# Altium footprint library BASIC Library.PCBLIB: 464 footprints (part 29 of 30)
Each footprint in its own frame and in the unit in brackets; x right, y up, seen from the top. Pads: shape width x height; smd on the part's side, far side on the other; paste and mask are expansions set on the pad; w line width, h text height; cw(c..) or ccw(c..) is an arc to the next point about the centre after c.
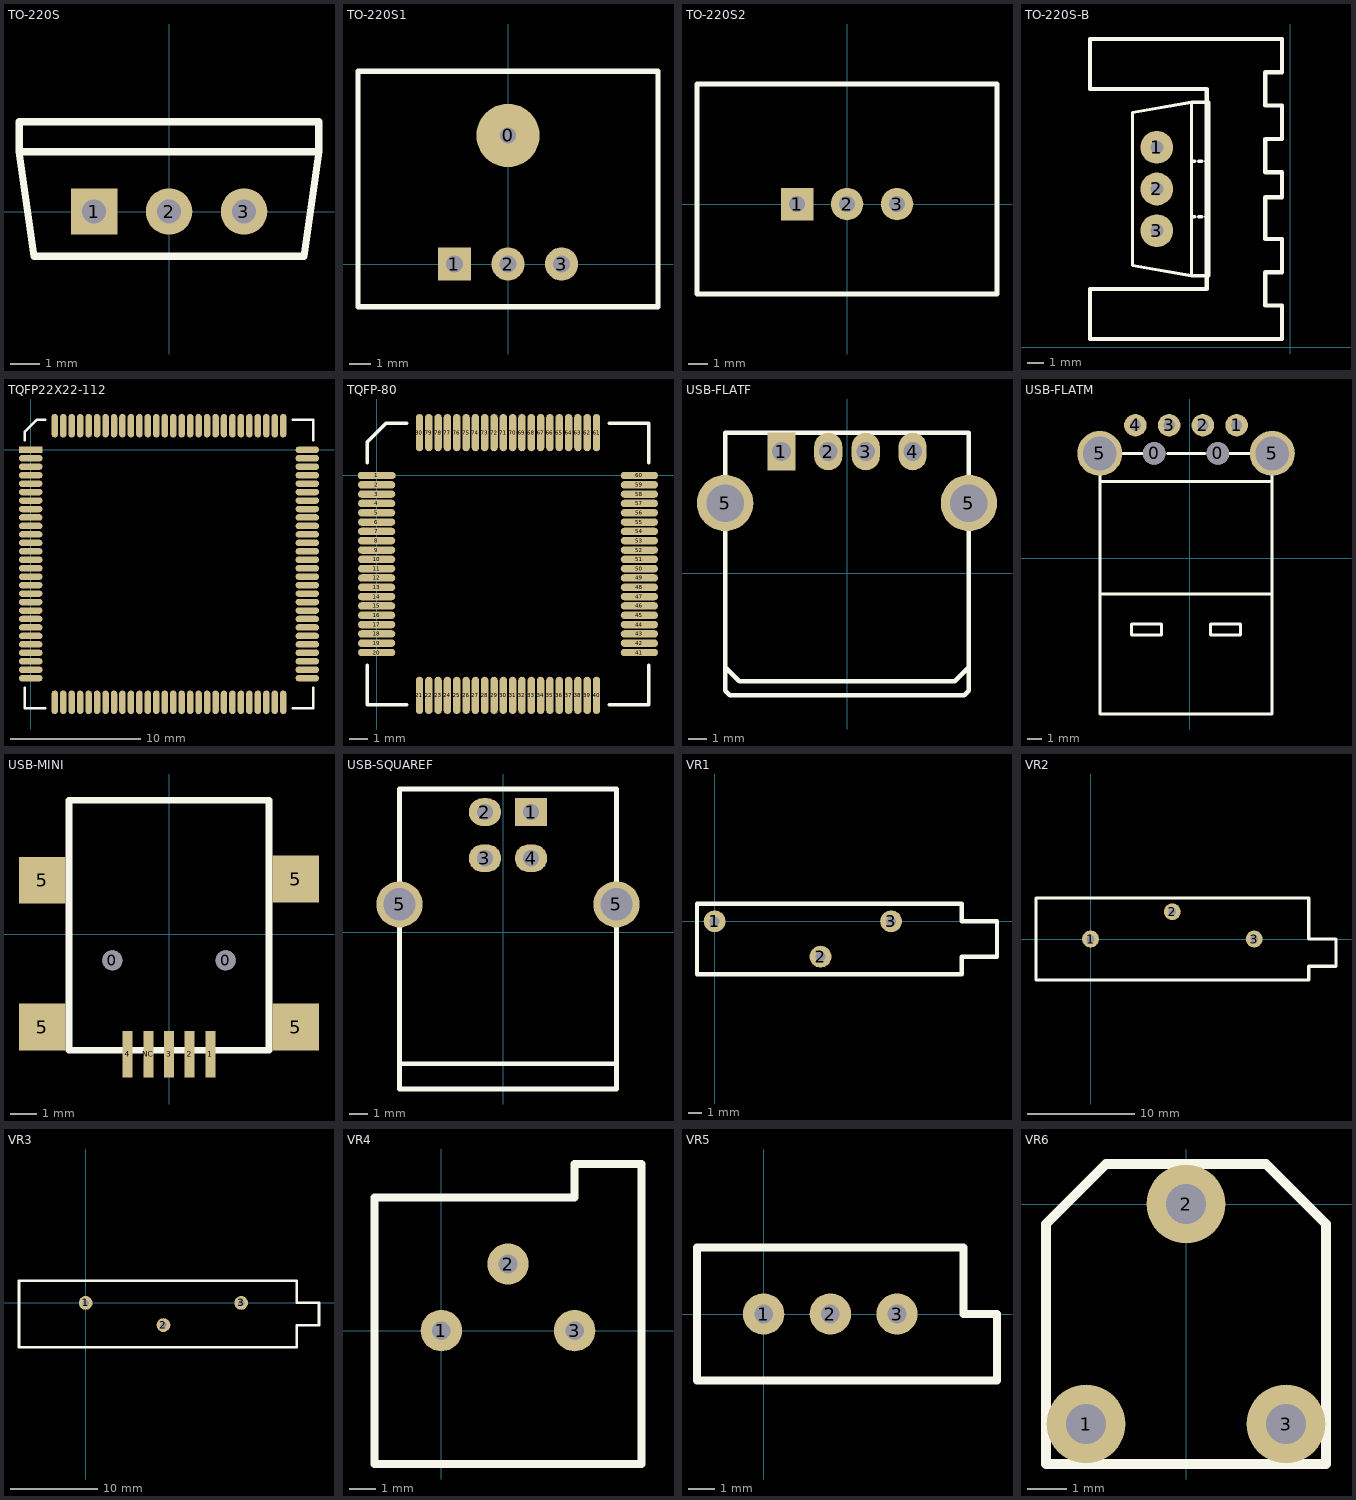
[diagram p28: the footprints below, top view; thin cyan lines are the x and y axes]

## TO-220S [mil]
pads (3):
  rect 62x62 hole 32: 1(-100,0)
  round 62 hole 32: 2(0,0) 3(100,0)
TopOverlay:
  lines w10: -200,80 -180,-60 180,-60 200,80 ; -200,80 -200,120 200,120 200,80 ; -200,80 200,80

## TO-220S1 [mil]
pads (4):
  round 118.11 hole 30: 0(0,240)
  rect 62x62 hole 32: 1(-100,0)
  round 62 hole 32: 2(0,0) 3(100,0)
TopOverlay:
  lines w10: -280,-80 -280,360 280,360 280,-80 -280,-80

## TO-220S2 [mil]
pads (3):
  rect 65x65 hole 32: 1(-100,0)
  round 65 hole 32: 2(0,0) 3(100,0)
TopOverlay:
  lines w10: -300,-180 300,-180 300,240 -300,240 -300,-180

## TO-220S-B [mm]
pads (3):
  round 2 hole 0.8: 1(-8.128,12.192) 2(-8.128,9.652) 3(-8.128,7.112)
TopOverlay:
  lines w0.2: -6.011,7.959 -5.8,7.959 ; -6.011,11.345 -5.8,11.345 ; -5.588,7.959 -5.376,7.959 ; -5.588,11.345 -5.376,11.345 ; -5.165,7.959 -4.953,7.959 ; -5.165,11.345 -4.953,11.345 ; -6.011,4.36 -9.61,4.995 -9.61,14.309 -6.011,14.944 ; -6.011,4.36 -6.011,14.944 ; -6.011,4.36 -4.953,4.36 -4.953,14.944 -6.011,14.944
  lines w0.254: -12.192,0.508 -12.192,2.032 -12.192,3.556 -5.08,3.556 -5.08,15.24 -5.08,15.748 -12.192,15.748 -12.192,17.272 -12.192,18.796 -0.508,18.796 -0.508,16.764 -1.524,16.764 -1.524,14.732 -0.508,14.732 -0.508,13.208 -0.508,12.7 -1.524,12.7 -1.524,10.668 -0.508,10.668 -0.508,9.144 -1.524,9.144 -1.524,6.604 -0.508,6.604 -0.508,4.572 -1.524,4.572 -1.524,2.54 -0.508,2.54 -0.508,0.508 -1.524,0.508 -12.192,0.508

## TQFP22X22-112 [mm]
pads (112):
  rect 1.8x0.5 smd: 1(0,0)
  oval 1.8x0.5 smd: 2(0,-0.65) 3(0,-1.3) 4(0,-1.95) 5(0,-2.6) 6(0,-3.25) 7(0,-3.9) 8(0,-4.55) 9(0,-5.2) 10(0,-5.85) 11(0,-6.5) 12(0,-7.15) 13(0,-7.8) 14(0,-8.45) 15(0,-9.1) 16(0,-9.75) 17(0,-10.4) 18(0,-11.05) 19(0,-11.7) 20(0,-12.35) 21(0,-13) 22(0,-13.65) 23(0,-14.3) 24(0,-14.95) 25(0,-15.6) 26(0,-16.25) 27(0,-16.9) 28(0,-17.55) 57(21.25,-17.55) 58(21.25,-16.9) 59(21.25,-16.25) 60(21.25,-15.6) 61(21.25,-14.95) 62(21.25,-14.3) 63(21.25,-13.65) 64(21.25,-13) 65(21.25,-12.35) 66(21.25,-11.7) 67(21.25,-11.05) 68(21.25,-10.4) 69(21.25,-9.75) 70(21.25,-9.1) 71(21.25,-8.45) 72(21.25,-7.8) 73(21.25,-7.15) 74(21.25,-6.5) 75(21.25,-5.85) 76(21.25,-5.2) 77(21.25,-4.55) 78(21.25,-3.9) 79(21.25,-3.25) 80(21.25,-2.6) 81(21.25,-1.95) 82(21.25,-1.3) 83(21.25,-0.65) 84(21.25,0)
  oval 0.5x1.8 smd: 29(1.85,-19.4) 30(2.5,-19.4) 31(3.15,-19.4) 32(3.8,-19.4) 33(4.45,-19.4) 34(5.1,-19.4) 35(5.75,-19.4) 36(6.4,-19.4) 37(7.05,-19.4) 38(7.7,-19.4) 39(8.35,-19.4) 40(9,-19.4) 41(9.65,-19.4) 42(10.3,-19.4) 43(10.95,-19.4) 44(11.6,-19.4) 45(12.25,-19.4) 46(12.9,-19.4) 47(13.55,-19.4) 48(14.2,-19.4) 49(14.85,-19.4) 50(15.5,-19.4) 51(16.15,-19.4) 52(16.8,-19.4) 53(17.45,-19.4) 54(18.1,-19.4) 55(18.75,-19.4) 56(19.4,-19.4) 85(19.4,1.85) 86(18.75,1.85) 87(18.1,1.85) 88(17.45,1.85) 89(16.8,1.85) 90(16.15,1.85) 91(15.5,1.85) 92(14.85,1.85) 93(14.2,1.85) 94(13.55,1.85) 95(12.9,1.85) 96(12.25,1.85) 97(11.6,1.85) 98(10.95,1.85) 99(10.3,1.85) 100(9.65,1.85) 101(9,1.85) 102(8.35,1.85) 103(7.7,1.85) 104(7.05,1.85) 105(6.4,1.85) 106(5.75,1.85) 107(5.1,1.85) 108(4.45,1.85) 109(3.8,1.85) 110(3.15,1.85) 111(2.5,1.85) 112(1.85,1.85)
TopOverlay:
  lines w0.2: -0.45,-18.3 -0.45,-19.85 1.1,-19.85 ; -0.45,0.75 -0.45,1.4 0.45,2.3 1.1,2.3 ; 20.15,-19.85 21.7,-19.85 21.7,-18.3 ; 20.15,2.3 21.7,2.3 21.7,0.75

## TQFP-80 [mm]
pads (80):
  oct 2x0.4 smd: 1(0,0)
  oval 2x0.4 smd: 2(0,-0.5) 3(0,-1) 4(0,-1.5) 5(0,-2) 6(0,-2.5) 7(0,-3) 8(0,-3.5) 9(0,-4) 10(0,-4.5) 11(0,-5) 12(0,-5.5) 13(0,-6) 14(0,-6.5) 15(0,-7) 16(0,-7.5) 17(0,-8) 18(0,-8.5) 19(0,-9) 20(0,-9.5) 41(14.1,-9.5) 42(14.1,-9) 43(14.1,-8.5) 44(14.1,-8) 45(14.1,-7.5) 46(14.1,-7) 47(14.1,-6.5) 48(14.1,-6) 49(14.1,-5.5) 50(14.1,-5) 51(14.1,-4.5) 52(14.1,-4) 53(14.1,-3.5) 54(14.1,-3) 55(14.1,-2.5) 56(14.1,-2) 57(14.1,-1.5) 58(14.1,-1) 59(14.1,-0.5) 60(14.1,0)
  oval 0.4x2 smd: 21(2.3,-11.8) 22(2.8,-11.8) 23(3.3,-11.8) 24(3.8,-11.8) 25(4.3,-11.8) 26(4.8,-11.8) 27(5.3,-11.8) 28(5.8,-11.8) 29(6.3,-11.8) 30(6.8,-11.8) 31(7.3,-11.8) 32(7.8,-11.8) 33(8.3,-11.8) 34(8.8,-11.8) 35(9.3,-11.8) 36(9.8,-11.8) 37(10.3,-11.8) 38(10.8,-11.8) 39(11.3,-11.8) 40(11.8,-11.8) 61(11.8,2.3) 62(11.3,2.3) 63(10.8,2.3) 64(10.3,2.3) 65(9.8,2.3) 66(9.3,2.3) 67(8.8,2.3) 68(8.3,2.3) 69(7.8,2.3) 70(7.3,2.3) 71(6.8,2.3) 72(6.3,2.3) 73(5.8,2.3) 74(5.3,2.3) 75(4.8,2.3) 76(4.3,2.3) 77(3.8,2.3) 78(3.3,2.3) 79(2.8,2.3) 80(2.3,2.3)
TopOverlay:
  lines w0.2: -0.5,-10.2 -0.5,-12.3 1.6,-12.3 ; -0.5,0.7 -0.5,1.8 0.5,2.8 1.6,2.8 ; 12.5,-12.3 14.6,-12.3 14.6,-10.2 ; 12.5,2.8 14.6,2.8 14.6,0.7

## USB-FLATF [mil]
pads (6):
  rect 60x80 hole 40: 1(-140,260)
  oval 60x80 hole 40: 2(-40,260) 3(40,260) 4(140,260)
  round 120 hole 80: 5(-260,150) 5(260,150)
TopOverlay:
  lines w10: -260,-200 -230,-230 230,-230 260,-200 ; -260,-250 -260,300 260,300 260,-250 250,-260 -250,-260 -260,-250

## USB-FLATM [mil]
pads (8):
  round 60 hole 60: 0(-95,280) 0(75,280)
  round 60 hole 30: 1(125,355) 2(35,355) 3(-55,355) 4(-145,355)
  round 120 hole 90: 5(-240,280) 5(220,280)
TopOverlay:
  lines w8: -240,-95 220,-95 ; -240,280 -240,205 ; -180,280 -120,280 ; -60,280 40,280 ; 100,280 160,280 ; 220,280 220,205 ; -240,205 -240,-415 220,-415 220,205 ; -240,205 220,205 ; -155,-205 -75,-205 -75,-175 -155,-175 -155,-205 ; 55,-205 55,-175 135,-175 135,-205 55,-205

## USB-MINI [mil]
pads (11):
  round 30 hole 30: 0(-85,-39) 0(85,-39)
  rect 15x70 smd: 1(62,-180) 2(31,-180) 3(0,-180) 4(-62,-180) NC(-31,-180)
  rect 70x70 smd: 5(-190,-139) 5(-190,81) 5(190,-139) 5(190,83)
TopOverlay:
  lines w10: -150,-174 -150,201 150,201 150,-174 -150,-174

## USB-SQUAREF [mil]
pads (6):
  rect 70x60 hole 35: 1(60,260)
  oval 70x60 hole 35: 2(-40,260) 3(-40,160) 4(60,160)
  round 100 hole 70: 5(-225,60) 5(245,60)
TopOverlay:
  lines w10: -225,-285 245,-285 ; -225,30 -225,-340 245,-340 245,35 ; -225,90 -225,310 245,310 245,90

## VR1 [mil]
pads (3):
  round 62 hole 28: 1(0,0) 2(300,-100) 3(500,0)
TopOverlay:
  lines w12: -50,-150 -50,50 700,50 700,0 800,0 800,-100 700,-100 700,-150 -50,-150

## VR2 [mil]
pads (3):
  round 62 hole 28: 1(0,0) 2(300,100) 3(600,0)
TopOverlay:
  lines w12: -200,-150 -200,150 800,150 800,0 900,0 900,-100 800,-100 800,-150 -200,-150

## VR3 [mil]
pads (3):
  round 62 hole 28: 1(0,0) 2(350,-100) 3(700,0)
TopOverlay:
  lines w12: -300,-200 950,-200 950,-100 1050,-100 1050,0 950,0 950,100 -300,100 -300,-200

## VR4 [mil]
pads (3):
  round 62 hole 28: 1(0,0) 2(100,100) 3(200,0)
TopOverlay:
  lines w12: -100,-200 -100,200 200,200 200,250 300,250 300,-200 -100,-200

## VR5 [mil]
pads (3):
  round 62 hole 28: 1(0,0) 2(100,0) 3(200,0)
TopOverlay:
  lines w12: -100,-100 -100,100 300,100 300,0 350,0 350,-100 -100,-100

## VR6 [mm]
pads (3):
  round 2 hole 1.016: 1(-2.54,-5.588) 2(0,0) 3(2.54,-5.588)
TopOverlay:
  lines w0.254: -3.556,-6.604 3.556,-6.604 3.556,-0.508 2.032,1.016 -2.032,1.016 -3.556,-0.508 -3.556,-6.604